# Altium footprint library 直插.PcbLib: 159 footprints (part 5 of 10)
Each footprint in its own frame and in the unit in brackets; x right, y up, seen from the top. Pads: shape width x height; smd on the part's side, far side on the other; paste and mask are expansions set on the pad; w line width, h text height; cw(c..) or ccw(c..) is an arc to the next point about the centre after c.
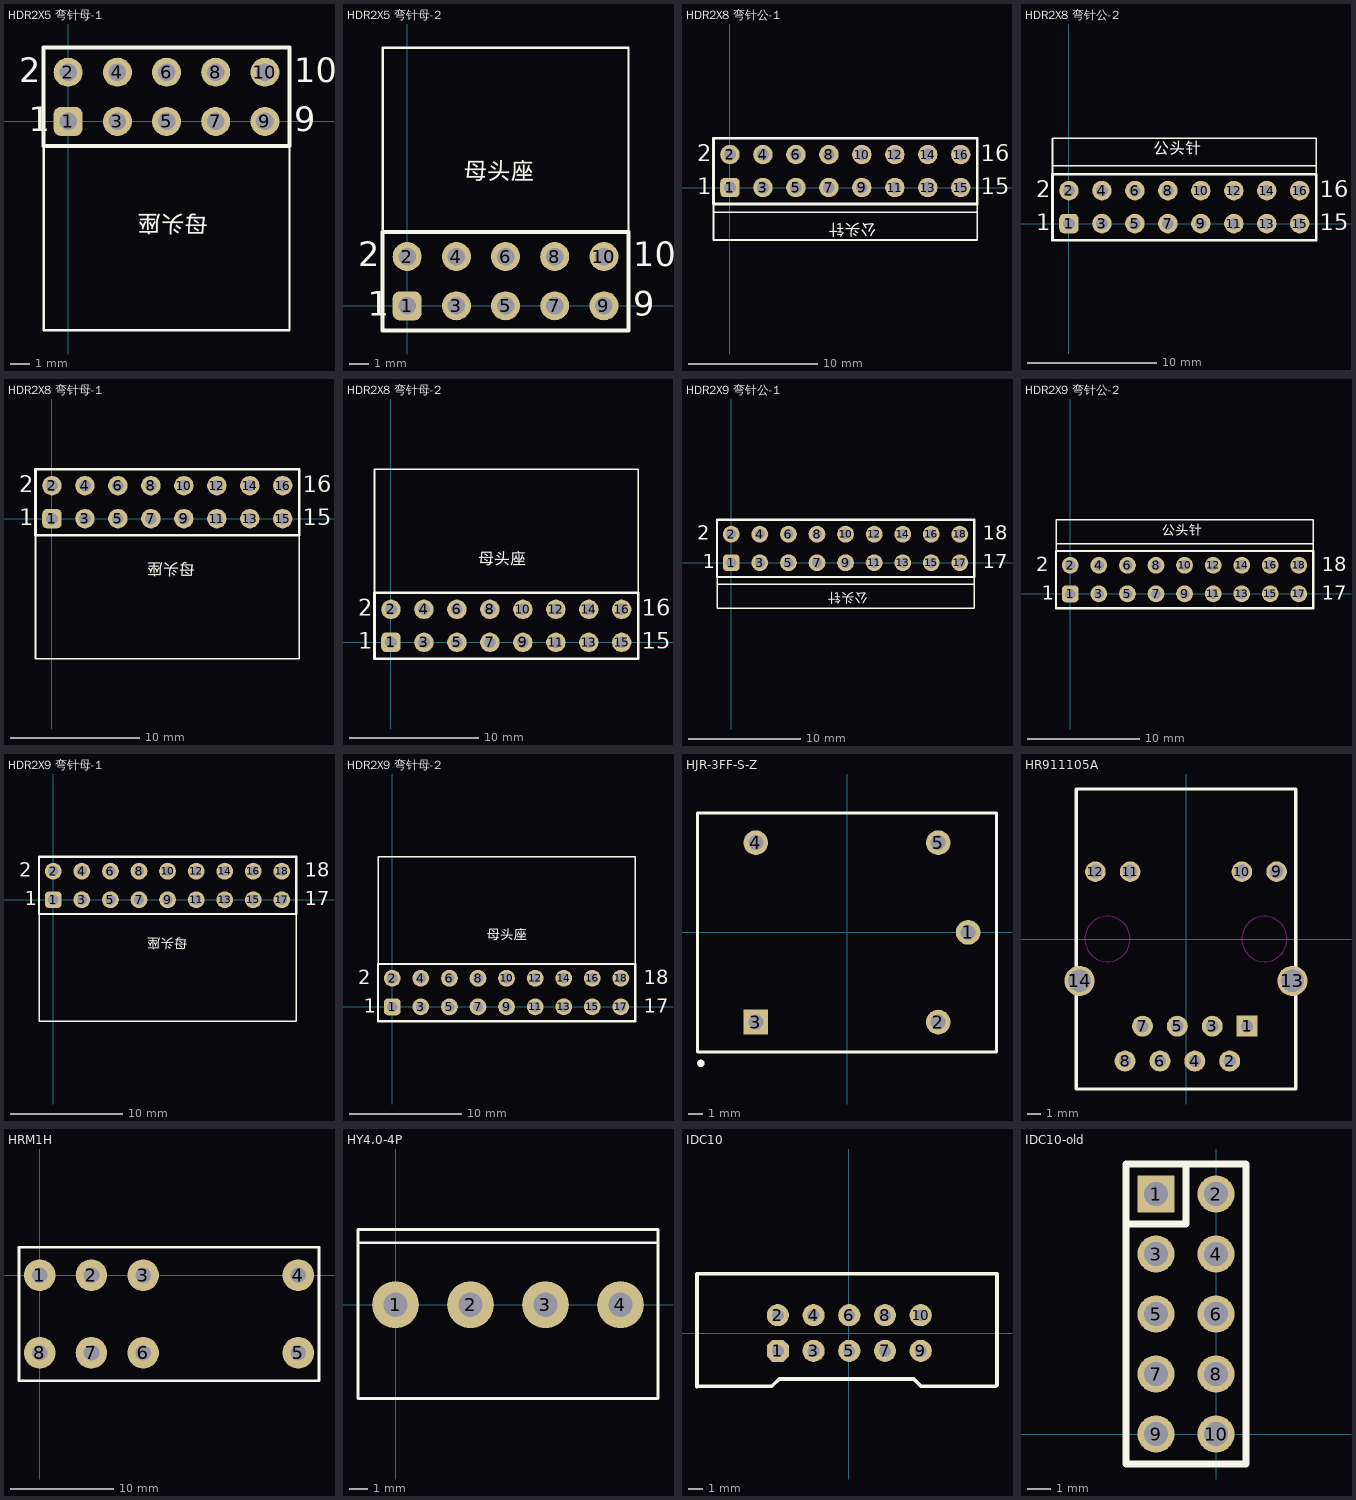
[diagram p4: the footprints below, top view; thin cyan lines are the x and y axes]

## HDR2X5 弯针母-1 [mm] "Connector; Header; 5x2 Position"
height 11.5
pads (10):
  rrect50% 1.5x1.5 hole 0.9: 1(0,0)
  round 1.5 hole 0.9: 2(0,2.54) 3(2.54,0) 4(2.54,2.54) 5(5.08,0) 6(5.08,2.54) 7(7.62,0) 8(7.62,2.54) 9(10.16,0) 10(10.16,2.54)
Top Overlay:
  lines w0.127: -1.27,0 -1.27,-10.795 11.43,-10.795 11.43,0
  lines w0.2: -1.27,-1.27 -1.27,3.81 11.43,3.81 11.43,-1.27 -1.27,-1.27
  text "2" at -2.54,2.032 h1.27
  text "1" at -2.032,-0.508 h1.27
  text "9" at 11.684,-0.508 h1.27
  text "10" at 11.684,2.032 h1.27
  text "母头座" at 7.239,-4.572 h1.52

## HDR2X5 弯针母-2 [mm] "Connector; Header; 5x2 Position"
height 11.5
pads (10):
  rrect50% 1.5x1.5 hole 0.9: 1(0,0)
  round 1.5 hole 0.9: 2(0,2.54) 3(2.54,0) 4(2.54,2.54) 5(5.08,0) 6(5.08,2.54) 7(7.62,0) 8(7.62,2.54) 9(10.16,0) 10(10.16,2.54)
Top Overlay:
  lines w0.127: -1.27,2.54 -1.27,13.335 11.43,13.335 11.43,2.54
  lines w0.2: -1.27,-1.27 11.43,-1.27 11.43,3.81 -1.27,3.81 -1.27,-1.27
  text "母头座" at 2.921,6.223 h1.52
  text "10" at 11.684,2.032 h1.27
  text "9" at 11.684,-0.508 h1.27
  text "1" at -2.032,-0.508 h1.27
  text "2" at -2.54,2.032 h1.27

## HDR2X8 弯针公-1 [mm] "Connector; Header; 8x2 Position"
height 11.5
pads (16):
  rrect50% 1.5x1.5 hole 0.9: 1(0,0)
  round 1.5 hole 0.9: 2(0,2.54) 3(2.54,0) 4(2.54,2.54) 5(5.08,0) 6(5.08,2.54) 7(7.62,0) 8(7.62,2.54) 9(10.16,0) 10(10.16,2.54) 11(12.7,0) 12(12.7,2.54) 13(15.24,0) 14(15.24,2.54) 15(17.78,0) 16(17.78,2.54)
Top Overlay:
  lines w0.127: -1.27,-1.905 19.05,-1.905 ; -1.27,0 -1.27,-4.04 19.05,-4.04 19.05,0
  lines w0.2: -1.27,-1.27 -1.27,3.81 19.05,3.81 19.05,-1.27 -1.27,-1.27
  text "2" at -2.54,2.032 h1.27
  text "1" at -2.54,-0.508 h1.27
  text "15" at 19.304,-0.508 h1.27
  text "16" at 19.304,2.032 h1.27
  text "公头针" at 11.303,-2.54 h1.52

## HDR2X8 弯针公-2 [mm] "Connector; Header; 8x2 Position"
height 11.5
pads (16):
  rrect50% 1.5x1.5 hole 0.9: 1(0,0)
  round 1.5 hole 0.9: 2(0,2.54) 3(2.54,0) 4(2.54,2.54) 5(5.08,0) 6(5.08,2.54) 7(7.62,0) 8(7.62,2.54) 9(10.16,0) 10(10.16,2.54) 11(12.7,0) 12(12.7,2.54) 13(15.24,0) 14(15.24,2.54) 15(17.78,0) 16(17.78,2.54)
Top Overlay:
  lines w0.127: -1.27,2.54 -1.27,6.58 19.05,6.58 19.05,2.54 ; -1.27,4.445 19.05,4.445
  lines w0.2: -1.27,-1.27 19.05,-1.27 19.05,3.81 -1.27,3.81 -1.27,-1.27
  text "16" at 19.304,2.032 h1.27
  text "15" at 19.304,-0.508 h1.27
  text "1" at -2.54,-0.508 h1.27
  text "2" at -2.54,2.032 h1.27
  text "公头针" at 6.477,5.08 h1.52

## HDR2X8 弯针母-1 [mm] "Connector; Header; 8x2 Position"
height 11.5
pads (16):
  rrect50% 1.5x1.5 hole 0.9: 1(0,0)
  round 1.5 hole 0.9: 2(0,2.54) 3(2.54,0) 4(2.54,2.54) 5(5.08,0) 6(5.08,2.54) 7(7.62,0) 8(7.62,2.54) 9(10.16,0) 10(10.16,2.54) 11(12.7,0) 12(12.7,2.54) 13(15.24,0) 14(15.24,2.54) 15(17.78,0) 16(17.78,2.54)
Top Overlay:
  lines w0.127: -1.27,0 -1.27,-10.795 19.05,-10.795 19.05,0
  lines w0.2: -1.27,-1.27 -1.27,3.81 19.05,3.81 19.05,-1.27 -1.27,-1.27
  text "母头座" at 11.049,-3.175 h1.52
  text "2" at -2.54,2.032 h1.27
  text "1" at -2.54,-0.508 h1.27
  text "15" at 19.304,-0.508 h1.27
  text "16" at 19.304,2.032 h1.27

## HDR2X8 弯针母-2 [mm] "Connector; Header; 8x2 Position"
height 11.5
pads (16):
  rrect50% 1.5x1.5 hole 0.9: 1(0,0)
  round 1.5 hole 0.9: 2(0,2.54) 3(2.54,0) 4(2.54,2.54) 5(5.08,0) 6(5.08,2.54) 7(7.62,0) 8(7.62,2.54) 9(10.16,0) 10(10.16,2.54) 11(12.7,0) 12(12.7,2.54) 13(15.24,0) 14(15.24,2.54) 15(17.78,0) 16(17.78,2.54)
Top Overlay:
  lines w0.127: -1.27,2.54 -1.27,13.335 19.05,13.335 19.05,2.54
  lines w0.2: -1.27,-1.27 -1.27,3.81 19.05,3.81 19.05,-1.27 -1.27,-1.27
  text "2" at -2.54,2.032 h1.27
  text "1" at -2.54,-0.508 h1.27
  text "15" at 19.304,-0.508 h1.27
  text "16" at 19.304,2.032 h1.27
  text "母头座" at 6.731,5.715 h1.52

## HDR2X9 弯针公-1 [mm] "Connector; Header; 9x2 Position"
height 11.5
pads (18):
  rrect50% 1.5x1.5 hole 0.9: 1(0,0)
  round 1.5 hole 0.9: 2(0,2.54) 3(2.54,0) 4(2.54,2.54) 5(5.08,0) 6(5.08,2.54) 7(7.62,0) 8(7.62,2.54) 9(10.16,0) 10(10.16,2.54) 11(12.7,0) 12(12.7,2.54) 13(15.24,0) 14(15.24,2.54) 15(17.78,0) 16(17.78,2.54) 17(20.32,0) 18(20.32,2.54)
Top Overlay:
  lines w0.127: -1.27,-1.905 21.59,-1.905 ; -1.27,0 -1.27,-4.04 21.59,-4.04 21.59,0
  lines w0.2: -1.27,-1.27 -1.27,3.81 21.59,3.81 21.59,-1.27 -1.27,-1.27
  text "2" at -3.048,2.032 h1.27
  text "1" at -2.54,-0.508 h1.27
  text "17" at 22.352,-0.508 h1.27
  text "18" at 22.352,2.032 h1.27
  text "公头针" at 12.192,-2.413 h1.52

## HDR2X9 弯针公-2 [mm] "Connector; Header; 9x2 Position"
height 11.5
pads (18):
  rrect50% 1.5x1.5 hole 0.9: 1(0,0)
  round 1.5 hole 0.9: 2(0,2.54) 3(2.54,0) 4(2.54,2.54) 5(5.08,0) 6(5.08,2.54) 7(7.62,0) 8(7.62,2.54) 9(10.16,0) 10(10.16,2.54) 11(12.7,0) 12(12.7,2.54) 13(15.24,0) 14(15.24,2.54) 15(17.78,0) 16(17.78,2.54) 17(20.32,0) 18(20.32,2.54)
Top Overlay:
  lines w0.127: -1.27,2.54 -1.27,6.58 21.59,6.58 21.59,2.54 ; -1.27,4.445 21.59,4.445
  lines w0.2: -1.27,-1.27 -1.27,3.81 21.59,3.81 21.59,-1.27 -1.27,-1.27
  text "公头针" at 8.128,4.953 h1.52
  text "2" at -3.048,2.032 h1.27
  text "1" at -2.54,-0.508 h1.27
  text "17" at 22.352,-0.508 h1.27
  text "18" at 22.352,2.032 h1.27

## HDR2X9 弯针母-1 [mm] "Connector; Header; 9x2 Position"
height 11.5
pads (18):
  rrect50% 1.5x1.5 hole 0.9: 1(0,0)
  round 1.5 hole 0.9: 2(0,2.54) 3(2.54,0) 4(2.54,2.54) 5(5.08,0) 6(5.08,2.54) 7(7.62,0) 8(7.62,2.54) 9(10.16,0) 10(10.16,2.54) 11(12.7,0) 12(12.7,2.54) 13(15.24,0) 14(15.24,2.54) 15(17.78,0) 16(17.78,2.54) 17(20.32,0) 18(20.32,2.54)
Top Overlay:
  lines w0.127: -1.27,0 -1.27,-10.795 21.59,-10.795 21.59,0
  lines w0.2: -1.27,-1.27 -1.27,3.81 21.59,3.81 21.59,-1.27 -1.27,-1.27
  text "母头座" at 11.938,-3.175 h1.52
  text "2" at -3.048,2.032 h1.27
  text "1" at -2.54,-0.508 h1.27
  text "17" at 22.352,-0.508 h1.27
  text "18" at 22.352,2.032 h1.27

## HDR2X9 弯针母-2 [mm] "Connector; Header; 9x2 Position"
height 11.5
pads (18):
  rrect50% 1.5x1.5 hole 0.9: 1(0,0)
  round 1.5 hole 0.9: 2(0,2.54) 3(2.54,0) 4(2.54,2.54) 5(5.08,0) 6(5.08,2.54) 7(7.62,0) 8(7.62,2.54) 9(10.16,0) 10(10.16,2.54) 11(12.7,0) 12(12.7,2.54) 13(15.24,0) 14(15.24,2.54) 15(17.78,0) 16(17.78,2.54) 17(20.32,0) 18(20.32,2.54)
Top Overlay:
  lines w0.127: -1.27,2.54 -1.27,13.335 21.59,13.335 21.59,2.54
  lines w0.2: -1.27,-1.27 21.59,-1.27 21.59,3.81 -1.27,3.81 -1.27,-1.27
  text "18" at 22.352,2.032 h1.27
  text "17" at 22.352,-0.508 h1.27
  text "1" at -2.54,-0.508 h1.27
  text "2" at -3.048,2.032 h1.27
  text "母头座" at 8.382,5.715 h1.52

## HJR-3FF-S-Z [mm] "DIP; 4 Round Pins; Row Space 27.94 mm; Pitch 15.24 mm"
height 14
pads (5):
  round 1.65 hole 1: 1(8.1,0) 2(6.1,-6) 4(-6.1,6) 5(6.1,6)
  rect 1.65x1.65 hole 1: 3(-6.1,-6)
Top Overlay:
  circle w0.25: c-9.777,-8.763 r0.125
  lines w0.2: -10,-8 -10,8 10,8 10,-8 -10,-8
Mechanical 13:
  lines w0.1: 10,8 -10.033,8 -10.033,-8.001 10.033,-8.001 10.033,8
3D body: height 14, standoff 0, extent -10.033,-8.001 10.033,8

## HR911105A [mm] "HR911105A RJ45 带灯 网络隔离变压器 滤波器"
pads (14):
  rect 1.524x1.524 hole 0.889: 1(4.45,-6.35)
  round 1.524 hole 0.889: 2(3.18,-8.89) 3(1.91,-6.35) 4(0.64,-8.89) 5(-0.63,-6.35) 6(-1.9,-8.89) 7(-3.17,-6.35) 8(-4.44,-8.89)
  round 1.5 hole 1.02: 9(6.6,4.9) 10(4.064,4.9) 11(-4.064,4.9) 12(-6.6,4.9)
  round 2.2 hole 1.65: 13(7.75,-3.048) 14(-7.75,-3.048)
Top Overlay:
  lines w0.254: -8,-10.922 -8,10.922 0,10.922 8,10.922 8,-10.922 0,-10.922 -8,-10.922
Keep-Out Layer:
  circle w0.051: c-5.714,0 r1.65
  circle w0.051: c5.716,0 r1.65

## HRM1H [mil] "Relay"
height 811.02
pads (8):
  round 120 hole 60: 1(0,0) 2(196.85,0) 3(393.7,0) 4(984.25,0) 5(984.25,-295.28) 6(393.7,-295.28) 7(196.85,-295.28) 8(0,-295.28)
Top Overlay:
  lines w10: -78.74,-401.57 1062.99,-401.57 1062.99,106.3 -78.74,106.3 -78.74,-401.57

## HY4.0-4P [mm]
pads (4):
  round 2.5 hole 1.3: 1(0,0) 2(4,0) 3(8,0) 4(12,0)
Top Overlay:
  lines w0.15: -2,3.302 14,3.302 ; -2,-5 14,-5 14,4 -2,4 -2,-5

## IDC10 [mil]
pads (10):
  oct 62x62 hole 33: 1(-198.42,-49.21)
  round 62 hole 33: 2(-198.42,50.79) 3(-98.43,-49.21) 4(-98.43,50.79) 5(1.57,-49.21) 6(1.57,50.79) 7(101.57,-49.21) 8(101.57,50.79) 9(201.57,-49.21) 10(201.57,50.79)
Top Overlay:
  lines w10: -424.83,-148.7 -215.73,-148.7 -194.98,-127.95 181.71,-127.95 202.46,-148.7 411.55,-148.7 ; -424.83,166.26 415.17,166.26 415.17,-145.08
  lines w12: -424.83,-148.7 -424.83,166.26

## IDC10-old [mil]
pads (10):
  rect 62x62 hole 40: 1(-100,400)
  round 62 hole 40: 2(0,400) 3(-100,300) 4(0,300) 5(-100,200) 6(0,200) 7(-100,100) 8(0,100) 9(-100,0) 10(0,0)
Top Overlay:
  lines w12: -150,350 -50,350 -50,450 ; -150,-50 50,-50 50,450 -150,450 -150,-50